# Altium schematic symbol library SN74HC251PWR.SchLib: 1 symbol
Pins are listed as number, name and electrical type; pins without a type are passive.

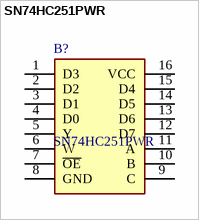
[diagram p0: symbol SN74HC251PWR]

## SN74HC251PWR
designator B?
Data Selectors/Multiplexers With 3-State Outputs; Manufacturer_Name: Texas Instruments; Geometry.Height: 1.2mm; Mouser Part Number: 595-SN74HC251PWR; Mouser Price/Stock: https://www.mouser.co.uk/ProductDetail/Texas-Instruments/SN74HC251PWR?qs=AgY10sKTvDL3Dq0JLvT9bg%3D%3D; Manufacturer_Part_Number: SN74HC251PWR; Datasheet Link: http://www.ti.com/lit/gpn/SN74HC251
footprint SOP65P640X120-16N
pins: 1 D3, 2 D2, 3 D1, 4 D0, 5 Y, 6 W, 7 ~{OE}, 8 GND, 9 C, 10 B, 11 A, 12 D7, 13 D6, 14 D5, 15 D4, 16 VCC